# Altium footprint library TXB0106PWR.PcbLib: 2 footprints
Each footprint in its own frame and in the unit in brackets; x right, y up, seen from the top. Pads: shape width x height; smd on the part's side, far side on the other; paste and mask are expansions set on the pad; w line width, h text height; cw(c..) or ccw(c..) is an arc to the next point about the centre after c.
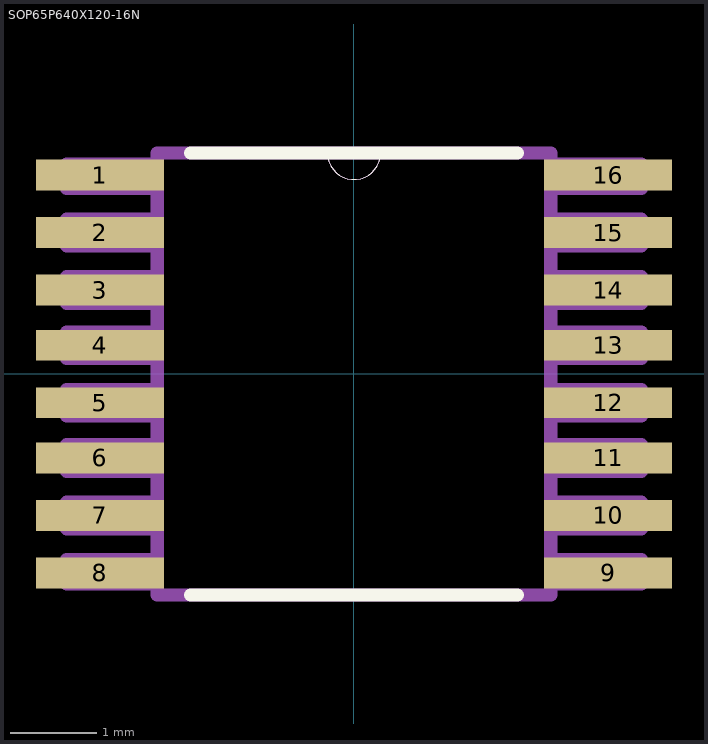
[diagram p0: the footprints below, top view; thin cyan lines are the x and y axes]

## PCBComponent_1 [mil]

## SOP65P640X120-16N [mil]
pads (16):
  rect 58x14 smd: 1(-115,90) 2(-115,64) 3(-115,38) 4(-115,13) 5(-115,-13) 6(-115,-38) 7(-115,-64) 8(-115,-90) 9(115,-90) 10(115,-64) 11(115,-38) 12(115,-13) 13(115,13) 14(115,38) 15(115,64) 16(115,90)
Top Overlay:
  lines w0: -12,100 ccw(c0,100) 12,100
  lines w6: -74,-100 74,-100 ; -74,100 -12,100 12,100 74,100
Mechanical 4:
  lines w0: -12,100 ccw(c0,100) 12,100 cw(c0,100) -12,100
  lines w6: -130,-95 -89,-95 ; -130,-95 -130,-84 ; -130,-95 -89,-95 ; -130,-95 -130,-84 ; -130,-84 -89,-84 ; -130,-84 -89,-84 ; -130,-70 -89,-70 ; -130,-70 -130,-58 ; -130,-70 -89,-70 ; -130,-70 -130,-58 ; -130,-58 -89,-58 ; -130,-58 -89,-58 ; -130,-44 -89,-44 ; -130,-44 -130,-32 ; -130,-44 -89,-44 ; -130,-44 -130,-32 ; -130,-32 -89,-32 ; -130,-32 -89,-32 ; -130,-19 -89,-19 ; -130,-19 -130,-7 ; -130,-19 -89,-19 ; -130,-19 -130,-7 ; -130,-7 -89,-7 ; -130,-7 -89,-7 ; -130,7 -89,7 ; -130,7 -130,19 ; -130,7 -89,7 ; -130,7 -130,19 ; -130,19 -89,19 ; -130,19 -89,19 ; -130,32 -89,32 ; -130,32 -130,44 ; -130,32 -89,32 ; -130,32 -130,44 ; -130,44 -89,44 ; -130,44 -89,44 ; -130,58 -89,58 ; -130,58 -130,70 ; -130,58 -89,58 ; -130,58 -130,70 ; -130,70 -89,70 ; -130,70 -89,70 ; -130,84 -89,84 ; -130,84 -130,95 ; -130,84 -89,84 ; -130,84 -130,95 ; -130,95 -89,95 ; -130,95 -89,95 ; -89,-100 -89,100 ; -89,-100 89,-100 ; -89,-100 -89,100 ; -89,-100 89,-100 ; -89,-95 -89,-84 ; -89,-95 -89,-84 ; -89,-70 -89,-58 ; -89,-70 -89,-58 ; -89,-44 -89,-32 ; -89,-44 -89,-32 ; -89,-19 -89,-7 ; -89,-19 -89,-7 ; -89,7 -89,19 ; -89,7 -89,19 ; -89,32 -89,44 ; -89,32 -89,44 ; -89,58 -89,70 ; -89,58 -89,70 ; -89,84 -89,95 ; -89,84 -89,95 ; -89,100 -12,100 ; -89,100 -12,100 ; -12,100 12,100 ; -12,100 12,100 ; 12,100 89,100 ; 12,100 89,100 ; 89,-100 89,100 ; 89,-100 89,100 ; 89,-95 130,-95 ; 89,-95 89,-84 ; 89,-95 130,-95 ; 89,-95 89,-84 ; 89,-84 130,-84 ; 89,-84 130,-84 ; 89,-70 130,-70 ; 89,-70 89,-58 ; 89,-70 130,-70 ; 89,-70 89,-58 ; 89,-58 130,-58 ; 89,-58 130,-58 ; 89,-44 130,-44 ; 89,-44 89,-32 ; 89,-44 130,-44 ; 89,-44 89,-32 ; 89,-32 130,-32 ; 89,-32 130,-32 ; 89,-19 130,-19 ; 89,-19 89,-7 ; 89,-19 130,-19 ; 89,-19 89,-7 ; 89,-7 130,-7 ; 89,-7 130,-7 ; 89,7 130,7 ; 89,7 89,19 ; 89,7 130,7 ; 89,7 89,19 ; 89,19 130,19 ; 89,19 130,19 ; 89,32 130,32 ; 89,32 89,44 ; 89,32 130,32 ; 89,32 89,44 ; 89,44 130,44 ; 89,44 130,44 ; 89,58 130,58 ; 89,58 89,70 ; 89,58 130,58 ; 89,58 89,70 ; 89,70 130,70 ; 89,70 130,70 ; 89,84 130,84 ; 89,84 89,95 ; 89,84 130,84 ; 89,84 89,95 ; 89,95 130,95 ; 89,95 130,95 ; 130,-95 130,-84 ; 130,-95 130,-84 ; 130,-70 130,-58 ; 130,-70 130,-58 ; 130,-44 130,-32 ; 130,-44 130,-32 ; 130,-19 130,-7 ; 130,-19 130,-7 ; 130,7 130,19 ; 130,7 130,19 ; 130,32 130,44 ; 130,32 130,44 ; 130,58 130,70 ; 130,58 130,70 ; 130,84 130,95 ; 130,84 130,95